# Altium footprint library Constructions_.PcbLib: 2 footprints
Each footprint in its own frame and in the unit in brackets; x right, y up, seen from the top. Pads: shape width x height; smd on the part's side, far side on the other; paste and mask are expansions set on the pad; w line width, h text height; cw(c..) or ccw(c..) is an arc to the next point about the centre after c.
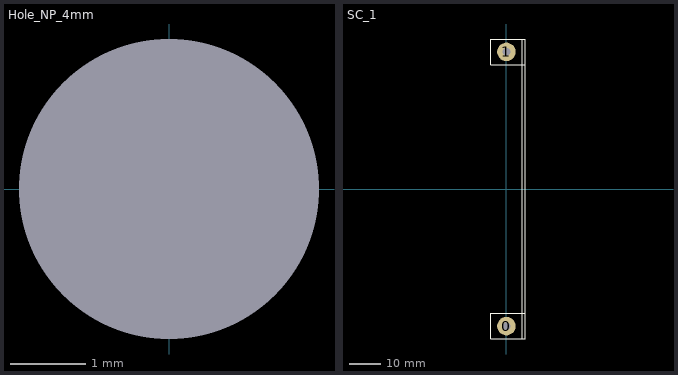
[diagram p0: the footprints below, top view; thin cyan lines are the x and y axes]

## Hole_NP_4mm [mm]
pads (1):
  round 0 hole 4 unplated: 0(0,0)

## SC_1 [mm] "SC_1"
pads (2):
  round 6 hole 2.5: 0(0,-44.25) 1(0,44.25)
Top Overlay:
  lines w0.254: 5.1,-48.4 5.1,48.4 ; 6.1,-40.1 -5.1,-40.1 -5.1,-48.4 6.1,-48.4 6.1,48.4 -5.1,48.4 -5.1,40.1 6.1,40.1
3D body: height 20, standoff 0, extent 5.1,-48.4 6.1,48.4